# Altium schematic symbol library RV_AT_Ports.SchLib: 3 symbols
Pins are listed as number, name and electrical type; pins without a type are passive.

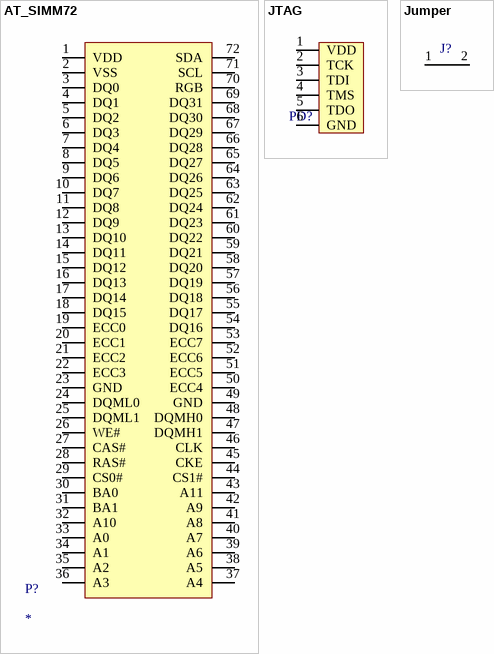
[diagram p0: symbols AT_SIMM72 to Jumper]

## AT_SIMM72
designator P?
pins: 1 VDD, 2 VSS, 3 DQ0, 4 DQ1, 5 DQ2, 6 DQ3, 7 DQ4, 8 DQ5, 9 DQ6, 10 DQ7, 11 DQ8, 12 DQ9, 13 DQ10, 14 DQ11, 15 DQ12, 16 DQ13, 17 DQ14, 18 DQ15, 19 ECC0, 20 ECC1, 21 ECC2, 22 ECC3, 23 GND, 24 DQML0, 25 DQML1, 26 WE#, 27 CAS#, 28 RAS#, 29 CS0#, 30 BA0, 31 BA1, 32 A10, 33 A0, 34 A1, 35 A2, 36 A3, 37 A4, 38 A5, 39 A6, 40 A7, 41 A8, 42 A9, 43 A11, 44 CS1#, 45 CKE, 46 CLK, 47 DQMH1, 48 DQMH0, 49 GND, 50 ECC4, 51 ECC5, 52 ECC6, 53 ECC7, 54 DQ16, 55 DQ17, 56 DQ18, 57 DQ19, 58 DQ20, 59 DQ21, 60 DQ22, 61 DQ23, 62 DQ24, 63 DQ25, 64 DQ26, 65 DQ27, 66 DQ28, 67 DQ29, 68 DQ30, 69 DQ31, 70 RGB, 71 SCL, 72 SDA

## JTAG
designator PD?  (value not drawn)
pins: 1 VDD, 2 TCK, 3 TDI, 4 TMS, 5 TDO, 6 GND

## Jumper
designator J?  (value not drawn)
pins: 1, 2